# Altium schematic symbol library MP2615AGQ-Z.Schlib: 1 symbol
Pins are listed as number, name and electrical type; pins without a type are passive.

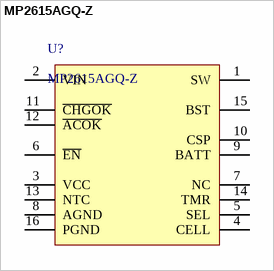
[diagram p0: symbol MP2615AGQ-Z]

## MP2615AGQ-Z
designator U?
Charger IC Lithium Ion/Polymer 16-QFN (3x3)
pins: 1 SW, 2 VIN, 3 VCC, 4 CELL, 5 SEL, 6 ~{EN}, 7 NC, 8 AGND, 9 BATT, 10 CSP, 11 ~{CHGOK}, 12 ~{ACOK}, 13 NTC, 14 TMR, 15 BST, 16 PGND